# Altium schematic symbol library TECLADO-G5-5A.schLib.SchLib: 9 symbols
Pins are listed as number, name and electrical type; pins without a type are passive.

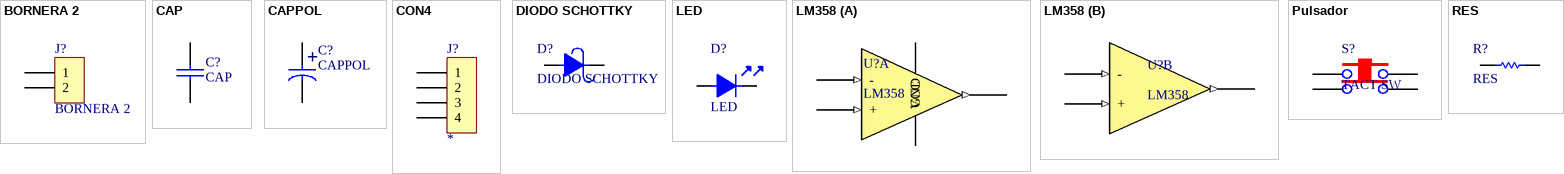
[diagram p0: symbols BORNERA 2 to RES]

## BORNERA 2
designator J?
footprint BORNERA2 (Bornera con Tornillos 5mm separaci�n)
pins: 1, 2

## CAP
designator C?
Diodo 0805
footprint 0805 (Pasivo 0805)
footprint 1206 (Pasivo 1206)
pins: 1, 2

## CAPPOL
designator C?
Cap polarizado
footprint Capol (Body diameter 6.5mm)
pins: 1, 2
text: +

## CON4
designator J?
footprint SIP4
pins: 1, 2, 3, 4

## DIODO SCHOTTKY
designator D?
Diodo; Autor: Guido Spataro; DAta: https://assets.nexperia.com/documents/outline-drawing/SOD123.pdf; Fecha: 07/04/19
footprint Diodo (SODFL, 2-Leads, Body 1,60x3,60mm, IPC Medium Density)
pins: 1, 2

## LED
designator D?
footprint LED_0805 (LED SMD 0805)
pins: 1, 2

## LM358
designator U?
footprint LM358 SMD
footprint DIP8
part A pins: 1 OUT_A (out), 2 - (in), 3 + (in), 4 GND, 8 VCC
part B pins: 5 + (in), 6 - (in), 7 OUT_B (out)

## Pulsador
designator S?, comment TACT SW
Pulsador; Autor: Guido Spataro; Data: Libebal; Fecha: 07/04/19
footprint TACTSWITCH
footprint pul_grande
pins: 1, 2, 3, 4

## RES
designator R?
Resistencia
footprint 0805 (Pasivo 0805)
footprint 1206 (Pasivo 1206)
pins: 1, 2